# Altium schematic symbol library TarjetaPrincipalV1_4.SCHLIB: 43 symbols
Pins are listed as number, name and electrical type; pins without a type are passive.

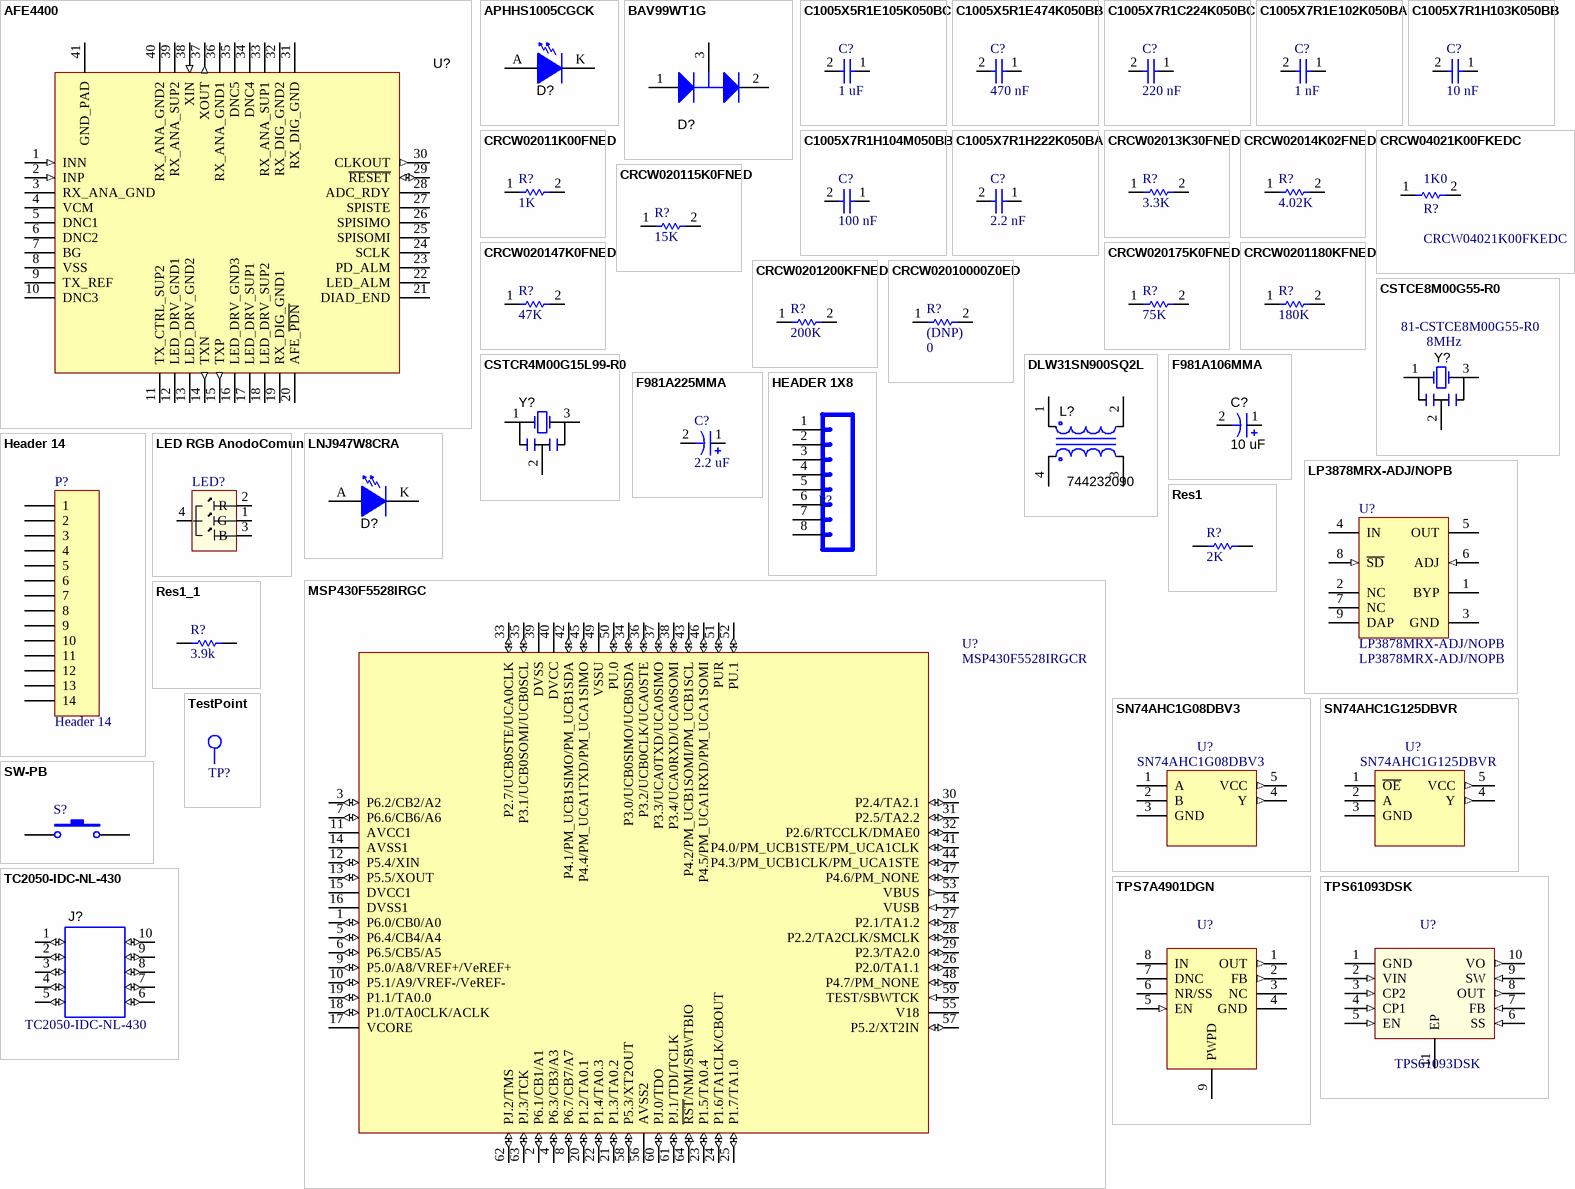
[diagram p0: symbols AFE4400 to TPS61093DSK]

## AFE4400
designator U?
IC, INTEGRATED ANALOG FRONT-END FOR HEART RATE MONITORS AND LOW-COST PULSE OXIMETERS, QFN-40; PART NUMBER: AFE4400; MANUFACTURER: TEXAS INSTRUMENTS; Manufacturer Part Number 1: AFE4400RHAT; POPULATE: Y; Description 1: ADC / DAC Multichannel Intg AFE for Heart Rate Monitors; Input Type: Analog, Digital; Input Voltage: 3.3 V; Number of Converters: 1; Resolution: 22 bit; Conversion Rate: 1.3 kSPs; Interface Type: Serial (SPI); Number of Channels: 1 Channel; Maximum Power Dissipation: 2.84 mW; Supply Voltage - Max: 3.6 V; Supply Voltage - Min: 2 V; Product Status: New Product; CONSIGNED: Y; Supplier 1: Mouser; Supplier Part Number 1: 595-AFE4400RHAT; Manufacturer 1: Texas Instruments; RoHS 1: RoHS Compliant; Category: ADC / DAC Multichannel; Stock 1: 140; Pricing 1: 1=10.29, 10=9.26, 25=8.68, 50=8.44, 100=7.61, 250=6.99, 500=6.37, 750=5.89, 1000=5.14 (AUD); Package / Case: VQFN-40; Packaging: Reel; Series: AFE4400; Brand: Texas Instruments; Mounting Style: SMD/SMT; Maximum Operating Temperature: + 70 C; Minimum Operating Temperature: 0 C; Standard Pack Qty: 250; RoHS - Mouser: Y; Minimum Order Quantity: 1; Reeling: True; ComponentLink1URL: http://www.mouser.com/ds/2/405/sbas601f-317023.pdf; ComponentLink1Description: http://www.mouser.com/ds/2/405/sbas601f-317023.pdf
footprint QFN-40[RHA-42P]
pins: 1 INN (in), 2 INP (in), 3 RX_ANA_GND (power), 4 VCM (power), 5 DNC1, 6 DNC2, 7 BG, 8 VSS (power), 9 TX_REF (power), 10 DNC3, 11 TX_CTRL_SUP2 (power), 12 LED_DRV_GND1 (power), 13 LED_DRV_GND2 (power), 14 TXN (out), 15 TXP (out), 16 LED_DRV_GND3 (power), 17 LED_DRV_SUP1 (power), 18 LED_DRV_SUP2 (power), 19 RX_DIG_GND1 (power), 20 AFE_~{PDN} (power), 21 DIAD_END, 22 LED_ALM, 23 PD_ALM, 24 SCLK, 25 SPISOMI, 26 SPISIMO, 27 SPISTE, 28 ADC_RDY, 29 ~{RESET} (io), 30 CLKOUT (out), 31 RX_DIG_GND (power), 32 RX_DIG_GND2 (power), 33 RX_ANA_SUP1 (power), 34 DNC4, 35 DNC5, 36 RX_ANA_GND1 (power), 37 XOUT (out), 38 XIN (in), 39 RX_ANA_SUP2 (power), 40 RX_ANA_GND2 (power), 41 GND_PAD (power)

## APHHS1005CGCK
designator D?, comment 2290341  (value not drawn)
KINGBRIGHT - KPHHS-1005MGCK - LED, 0402, GREEN; Luminous Intensity: 60; Viewing Angle: 120°; Forward Current If: 20; Forward Voltage: 2.1; LED Mounting: SMD; Lens Shape: Rectangular; Wavelength Typ: 574; SVHC: No SVHC (16-Dec-2013; Supplier 1: Farnell; Supplier Part Number 1: 2290341; Manufacturer 1: KINGBRIGHT; Manufacturer Part Number 1: KPHHS-1005MGCK; RoHS 1: YES; Description 1: KINGBRIGHT - KPHHS-1005MGCK - LED, 0402, GREEN; Stock 1: 2970; Pricing 1: 1=0.173, 10=0.162, 50=0.151, 100=0.14, 250=0.13, 500=0.12, 500=0.108, 3000=0.0859 (GBP); Bulb Size: -; LED Colour: Green; Packaging: Each; MSL: MSL 3 - 168 hours; ComponentLink1URL: http://www.farnell.com/datasheets/1683503.pdf; ComponentLink1Description: http://www.farnell.com/datasheets/1683503.pdf; Supplier 2: Mouser; Supplier Part Number 2: 604-APHHS1005CGCK
footprint LED_0402_GREEN
pins: A, K

## BAV99WT1G
designator D?, comment 1651159  (value not drawn)
ON SEMICONDUCTOR - BAV99WT1G - DIODE SMALL SIGNAL, 750MA; POPULATE: Y; CONSIGNED: N; PART NUMBER: BAV99WT1G; MANUFACTURER: ON SEMICONDUCTOR; Supplier 1: Farnell; Supplier Part Number 1: 1651159; Manufacturer 1: ON SEMICONDUCTOR; Manufacturer Part Number 1: BAV99WT1G; RoHS 1: YES; Description 1: ON SEMICONDUCTOR - BAV99WT1G - DIODE SMALL SIGNAL, 750MA; Stock 1: 17968; Pricing 1: 1=0.071, 25=0.064, 50=0.052, 100=0.038, 500=0.0261, 1000=0.023 (GBP); ComponentLink1URL: http://www.onsemi.com/pub/Collateral/BAV99WT1-D.PDF; ComponentLink1Description: http://www.onsemi.com/pub/Collateral/BAV99WT1-D.PDF; Supplier 2: Mouser; Supplier Part Number 2: 863-BAV99WT1G
footprint SOT-323
pins: 1 A, 2 C, 3 A_C
1 alternate drawing of the same symbol

## C1005X5R1E105K050BC
designator C?, comment 1 uF
TDK - C1005X5R1E105K050BC - CAP, MLCC, X5R, 1UF, 25V, 0402; Value: 1 uF; Supplier 1: Farnell; Stock 1: 5210; Pricing 1: 1=0.045, 10=0.04, 100=0.036, 250=0.029, 500=0.023, 10000=0.016 (GBP); ComponentLink1URL: http://www.farnell.com/datasheets/1796654.pdf; ComponentLink1Description: http://www.farnell.com/datasheets/1796654.pdf; Supplier Part Number 1: 2346884; Manufacturer 1: TDK; Manufacturer Part Number 1: C1005X5R1E105K050BC; RoHS 1: YES; Description 1: TDK - C1005X5R1E105K050BC - CAP, MLCC, X5R, 1UF, 25V, 0402; Supplier 2: Mouser; Supplier Part Number 2: 810-C1005X5R1E105K
footprint C0402
pins: 1, 2

## C1005X5R1E474K050BB
designator C?, comment 470 nF
TDK - C1005X5R1E474K050BB - CAP CERAMIC, 0.47UF, 25V, X5R, 0402; Product Range: TDK - C Series; Capacitance: 0.47; Capacitance Tolerance: ± 10%; Dielectric Characteristic: X5; Voltage Rating: 25; Capacitor Case Style: 0402 ^1005 Metric]; Value: 470 nF; Supplier 1: Farnell; Stock 1: 17199; Pricing 1: 1=0.019, 10=0.009, 100=0.009, 1000=0.008, 2500=0.008, 10000=0.008 (GBP); Packaging: Cut Tape; MSL: -; ComponentLink1URL: http://product.tdk.com/capacitor/mlcc/en/documents/mlcc_commercial_general_en.pdf; ComponentLink1Description: http://product.tdk.com/capacitor/mlcc/en/documents/mlcc_commercial_general_en.pdf; Supplier Part Number 1: 2354077; Manufacturer 1: TDK; Manufacturer Part Number 1: C1005X5R1E474K050BB; RoHS 1: YES; Description 1: TDK - C1005X5R1E474K050BB - CAP CERAMIC, 0.47UF, 25V, X5R, 0402; Supplier 2: Mouser; Supplier Part Number 2: 810-C1005X5R1E474K
footprint C0402
pins: 1, 2

## C1005X7R1C224K050BC
designator C?, comment 220 nF
TDK - C1005X7R1C224K050BC - CAP CERAMIC, 0.22UF, 16V, X7R, 0402; Supplier 1: Farnell; Stock 1: 13525; Pricing 1: 1=0.021, 10=0.012, 100=0.01, 1000=0.009, 4000=0.009, 8000=0.009 (GBP); ComponentLink1URL: http://product.tdk.com/capacitor/mlcc/en/documents/mlcc_commercial_general_en.pdf; ComponentLink1Description: http://product.tdk.com/capacitor/mlcc/en/documents/mlcc_commercial_general_en.pdf; Supplier Part Number 1: 2394245; Manufacturer 1: TDK; Manufacturer Part Number 1: C1005X7R1C224K050BC; RoHS 1: YES; Description 1: TDK - C1005X7R1C224K050BC - CAP CERAMIC, 0.22UF, 16V, X7R, 0402; Value: 220 nF; Supplier 2: Mouser; Supplier Part Number 2: 810-C1005X7R1C224K
footprint C0402
pins: 1, 2

## C1005X7R1E102K050BA
designator C?, comment 1 nF
TDK - C1005X7R1E102K050BA - CAPACITOR CERAMIC 1000PF, 25V, X7R, 10%, 0402; Value: 1 nF; Supplier 1: Farnell; Stock 1: 7460; Pricing 1: 1=0.004, 10=0.002, 100=0.002, 1000=0.002, 2500=0.002, 10000=0.002 (GBP); ComponentLink1URL: http://www.farnell.com/datasheets/1571323.pdf; ComponentLink1Description: http://www.farnell.com/datasheets/1571323.pdf; ComponentLink2URL: http://www.farnell.com/datasheets/1718611.pdf; ComponentLink2Description: http://www.farnell.com/datasheets/1718611.pdf; Supplier Part Number 1: 1844132; Manufacturer 1: TDK; Manufacturer Part Number 1: C1005X7R1E102K050BA; RoHS 1: YES; Description 1: TDK - C1005X7R1E102K050BA - CAPACITOR CERAMIC 1000PF, 25V, X7R, 10%, 0402; Supplier 2: Mouser; Supplier Part Number 2: 810-C1005X7R1E102K
footprint C0402
pins: 1, 2

## C1005X7R1H103K050BB
designator C?, comment 10 nF
TDK - C1005X7R1H103K050BB - CAP CERAMIC, 0.01UF, 50V, X7R, 0402; Product Range: TDK - C Series; Capacitance: 0.01; Capacitance Tolerance: ± 10%; Dielectric Characteristic: X7; Voltage Rating: 50; Capacitor Case Style: 0402 ^1005 Metric]; Value: 10 nF; Supplier 1: Farnell; Stock 1: 36; Pricing 1: 1=0.011, 10=0.005, 100=0.005, 1000=0.005, 2500=0.005 (GBP); Packaging: Cut Tape; MSL: -; ComponentLink1URL: http://product.tdk.com/capacitor/mlcc/en/documents/mlcc_commercial_general_en.pdf; ComponentLink1Description: http://product.tdk.com/capacitor/mlcc/en/documents/mlcc_commercial_general_en.pdf; Supplier Part Number 1: 2354088; Manufacturer 1: TDK; Manufacturer Part Number 1: C1005X7R1H103K050BB; RoHS 1: YES; Description 1: TDK - C1005X7R1H103K050BB - CAP CERAMIC, 0.01UF, 50V, X7R, 0402; Supplier 2: Mouser; Supplier Part Number 2: 810-C1005X7R1H103K
footprint C0402
pins: 1, 2

## C1005X7R1H104M050BB
designator C?, comment 100 nF
TDK - C1005X7R1H104M050BB - CAP CERAMIC, 0.1UF, 50V, X7R, 0402; Value: 100 nF; Supplier 1: Farnell; Stock 1: 15712; Pricing 1: 1=0.021, 10=0.012, 100=0.01, 1000=0.009, 4000=0.009, 8000=0.009 (GBP); ComponentLink1URL: http://product.tdk.com/capacitor/mlcc/en/documents/mlcc_commercial_general_en.pdf; ComponentLink1Description: http://product.tdk.com/capacitor/mlcc/en/documents/mlcc_commercial_general_en.pdf; Supplier Part Number 1: 2354090; Manufacturer 1: TDK; Manufacturer Part Number 1: C1005X7R1H104M050BB; RoHS 1: YES; Description 1: TDK - C1005X7R1H104M050BB - CAP CERAMIC, 0.1UF, 50V, X7R, 0402; Supplier 2: Mouser; Supplier Part Number 2: 810-C1005X7R1H104M
footprint C0402
pins: 1, 2

## C1005X7R1H222K050BA
designator C?, comment 2.2 nF
TDK - C1005X7R1H222K050BA - CAPACITOR CERAMIC 2200PF, 50V, X7R, 10%, 0402; Value: 2.2 nF; Supplier 1: Farnell; Stock 1: 9840; Pricing 1: 1=0.004, 10=0.002, 100=0.002, 1000=0.002, 2500=0.002, 10000=0.002 (GBP); ComponentLink1URL: http://www.farnell.com/datasheets/1571323.pdf; ComponentLink1Description: http://www.farnell.com/datasheets/1571323.pdf; ComponentLink2URL: http://www.farnell.com/datasheets/1718611.pdf; ComponentLink2Description: http://www.farnell.com/datasheets/1718611.pdf; Supplier Part Number 1: 1844139; Manufacturer 1: TDK; Manufacturer Part Number 1: C1005X7R1H222K050BA; RoHS 1: YES; Description 1: TDK - C1005X7R1H222K050BA - CAPACITOR CERAMIC 2200PF, 50V, X7R, 10%, 0402; Supplier 2: Mouser; Supplier Part Number 2: 810-C1005X7R1H222K
footprint C0402
pins: 1, 2

## CRCW02011K00FNED
designator R?, comment 1K
VISHAY DALE - CRCW02011K00FNED - RESISTOR, THICK FILM CHIP, 1KOHM 50mW, 1%, FULL REEL; Value: 1K; Supplier 1: Farnell; Pricing 1: 10000=0.022, 20000=0.022, 30000=0.022, 50000=0.019 (GBP); ComponentLink1URL: http://www.vishay.com/docs/20035/dcrcwe3.pdf; ComponentLink1Description: http://www.vishay.com/docs/20035/dcrcwe3.pdf; Supplier Part Number 1: 2321243; Manufacturer 1: VISHAY DALE; Manufacturer Part Number 1: CRCW02011K00FNED; RoHS 1: YES; Description 1: VISHAY DALE - CRCW02011K00FNED - RESISTOR, THICK FILM CHIP, 1KOHM 50mW, 1%, FULL REEL; Supplier 2: Mouser; Supplier Part Number 2: 71-CRCW02011K00FNED
footprint 0201
pins: 1, 2

## CRCW02013K30FNED
designator R?, comment 3.3K
VISHAY DALE - CRCW02013K30FNED - RESISTOR, THICK FILM, 3.3 KOHM, 50 mW, 1%, FULL REEL; Value: 3.3K; Supplier 1: Farnell; Stock 1: 9995; Pricing 1: 10000=0.007, 20000=0.007, 30000=0.006, 50000=0.006 (GBP); ComponentLink1URL: http://www.farnell.com/datasheets/1700795.pdf; ComponentLink1Description: http://www.farnell.com/datasheets/1700795.pdf; Supplier Part Number 1: 2322357; Manufacturer 1: VISHAY DALE; Manufacturer Part Number 1: CRCW02013K30FNED; RoHS 1: YES; Description 1: VISHAY DALE - CRCW02013K30FNED - RESISTOR, THICK FILM, 3.3 KOHM, 50 mW, 1%, FULL REEL
footprint 0201
pins: 1, 2

## CRCW02014K02FNED
designator R?, comment 4.02K
VISHAY DALE - CRCW02014K02FNED - RESISTOR, THICK FILM, 4.02 KOHM, 50 mW, 1%, FULL REEL; Product Range: VISHAY - CRCW Series; Resistance: 4.02; Power Rating: 50; Resistor Case Style: 0201 ^0603 Metric]; Value: 4.02K; Supplier 1: Farnell; Stock 1: 9995; Pricing 1: 10000=0.007, 20000=0.007, 30000=0.007, 50000=0.006 (GBP); Resistance Tolerance: ± 1%; Resistor Element Type: Thick Film; ComponentLink1URL: http://www.farnell.com/datasheets/1700795.pdf; ComponentLink1Description: http://www.farnell.com/datasheets/1700795.pdf; Supplier Part Number 1: 2322928; Manufacturer 1: VISHAY DALE; Manufacturer Part Number 1: CRCW02014K02FNED; RoHS 1: YES; Description 1: VISHAY DALE - CRCW02014K02FNED - RESISTOR, THICK FILM, 4.02 KOHM, 50 mW, 1%, FULL REEL
footprint 0201
pins: 1, 2

## CRCW04021K00FKEDC
designator R?  Resistance: 1K0
Resistor; Manufacturer: Vishay / Dale; Description: Thick Film Resistors - SMD 1/16watt 1Kohms 1% Commercial Use; Power Rating: 62.5 mW (1/16 W); Temperature Coefficient: 100 PPM / C; Tolerance: 1 %; Voltage Rating: 50 V; Supplier 1: Mouser; Manufacturer Part Number: CRCW04021K00FKEDC; RoHS: RoHS Compliant By Exemption; Category: Thick Film Resistors - SMD; Stock 1: 284399; Pricing 1: 1=0.130, 10=0.042, 100=0.017, 1000=0.007, 2500=0.004, 10000=0.004 (MXN); Features: -; Height: 0.35 mm; Length: 1 mm; Package / Case: -; Packaging: Cut Tape; Product: Thick Film Resistors SMD; Series: CRCW-C e3; Technology: Thick Film; Termination Style: SMD/SMT; Width: 0.5 mm; Brand: Vishay / Dale; Mounting Style: PCB Mount; Case Code - in: 0402; Case Code - mm: 1005; Maximum Operating Temperature: + 155 C; Minimum Operating Temperature: - 55 C; Product Type: Thick Film Resistors; Standard Pack Qty: 10000; Subcategory: Resistors; RoHS - Mouser: E; Minimum Order Quantity: 1; Reeling: True; ComponentLink1URL: https://www.mouser.com/datasheet/2/427/crcwce3-1762584.pdf; ComponentLink1Description: https://www.mouser.com/datasheet/2/427/crcwce3-1762584.pdf; Supplier Part Number 1: 71-CRCW04021K00FKEDC
footprint R-0402
pins: 1, 2

## CRCW020115K0FNED
designator R?, comment 15K
VISHAY DALE - CRCW020115K0FNED - RESISTOR, THICK FILM, 15 KOHM, 50 mW, 1%, FULL REEL; Value: 15K; Supplier 1: Farnell; Stock 1: 9995; Pricing 1: 10000=0.007, 20000=0.007, 30000=0.007, 50000=0.006 (GBP); ComponentLink1URL: http://www.farnell.com/datasheets/1700795.pdf; ComponentLink1Description: http://www.farnell.com/datasheets/1700795.pdf; Supplier Part Number 1: 2321583; Manufacturer 1: VISHAY DALE; Manufacturer Part Number 1: CRCW020115K0FNED; RoHS 1: YES; Description 1: VISHAY DALE - CRCW020115K0FNED - RESISTOR, THICK FILM, 15 KOHM, 50 mW, 1%, FULL REEL
footprint 0201
pins: 1, 2

## CRCW020147K0FNED
designator R?, comment 47K
VISHAY DALE - CRCW020147K0FNED - RESISTOR, THICK FILM, 47 KOHM, 50 mW, 1%, FULL REEL; Product Range: VISHAY - CRCW Series; Resistance: 47; Power Rating: 50; Resistor Case Style: 0201 ^0603 Metric]; Value: 47K; Supplier 1: Farnell; Stock 1: 9995; Pricing 1: 10000=0.007, 20000=0.007, 30000=0.006, 50000=0.006 (GBP); Resistance Tolerance: ± 1%; Resistor Element Type: Thick Film; MSL: -; ComponentLink1URL: http://www.farnell.com/datasheets/1700795.pdf; ComponentLink1Description: http://www.farnell.com/datasheets/1700795.pdf; Supplier Part Number 1: 2322005; Manufacturer 1: VISHAY DALE; Manufacturer Part Number 1: CRCW020147K0FNED; RoHS 1: YES; Description 1: VISHAY DALE - CRCW020147K0FNED - RESISTOR, THICK FILM, 47 KOHM, 50 mW, 1%, FULL REEL
footprint 0201
pins: 1, 2

## CRCW020175K0FNED
designator R?, comment 75K
VISHAY DALE - CRCW020175K0FNED - RESISTOR, THICK FILM, 75 KOHM, 50 mW, 1%, FULL REEL; Value: 75K; Supplier 1: Farnell; Stock 1: 9995; Pricing 1: 10000=0.007, 20000=0.007, 30000=0.006, 50000=0.006 (GBP); ComponentLink1URL: http://www.farnell.com/datasheets/1700795.pdf; ComponentLink1Description: http://www.farnell.com/datasheets/1700795.pdf; Supplier Part Number 1: 2321623; Manufacturer 1: VISHAY DALE; Manufacturer Part Number 1: CRCW020175K0FNED; RoHS 1: YES; Description 1: VISHAY DALE - CRCW020175K0FNED - RESISTOR, THICK FILM, 75 KOHM, 50 mW, 1%, FULL REEL
footprint 0201
pins: 1, 2

## CRCW0201180KFNED
designator R?, comment 180K
VISHAY DALE - CRCW0201180KFNED - RESISTOR, THICK FILM, 180 KOHM, 50 mW, 1%, FULL REEL; Value: 180K; Supplier 1: Farnell; Stock 1: 19995; Pricing 1: 10000=0.078, 20000=0.078, 30000=0.075, 50000=0.066 (GBP); ComponentLink1URL: http://www.farnell.com/datasheets/1700795.pdf; ComponentLink1Description: http://www.farnell.com/datasheets/1700795.pdf; Supplier Part Number 1: 2321951; Manufacturer 1: VISHAY DALE; Manufacturer Part Number 1: CRCW0201180KFNED; RoHS 1: YES; Description 1: VISHAY DALE - CRCW0201180KFNED - RESISTOR, THICK FILM, 180 KOHM, 50 mW, 1%, FULL REEL
footprint 0201
pins: 1, 2

## CRCW0201200KFNED
designator R?, comment 200K
VISHAY DALE - CRCW0201200KFNED - RESISTOR, THICK FILM, 200 KOHM, 50 mW, 1%, FULL REEL; Value: 200K; Supplier 1: Farnell; Stock 1: 9995; Pricing 1: 10000=0.007, 20000=0.007, 30000=0.006, 50000=0.006 (GBP); ComponentLink1URL: http://www.farnell.com/datasheets/1700795.pdf; ComponentLink1Description: http://www.farnell.com/datasheets/1700795.pdf; Supplier Part Number 1: 2321987; Manufacturer 1: VISHAY DALE; Manufacturer Part Number 1: CRCW0201200KFNED; RoHS 1: Y-EX; Description 1: VISHAY DALE - CRCW0201200KFNED - RESISTOR, THICK FILM, 200 KOHM, 50 mW, 1%, FULL REEL
footprint 0201
pins: 1, 2

## CRCW02010000Z0ED
designator R?, comment (DNP)  value 0
VISHAY DALE - CRCW02010000Z0ED - RESISTOR, CHIP, JUMPER, ZERO OHM, 50mW, FULL REEL; Supplier 1: Farnell; Stock 1: 19995; Pricing 1: 10000=0.017, 20000=0.016, 30000=0.015 (GBP); ComponentLink1URL: http://www.vishay.com/docs/20035/dcrcwe3.pdf; ComponentLink1Description: http://www.vishay.com/docs/20035/dcrcwe3.pdf; Supplier Part Number 1: 2316008; Manufacturer 1: VISHAY DALE; Manufacturer Part Number 1: CRCW02010000Z0ED; RoHS 1: YES; Description 1: VISHAY DALE - CRCW02010000Z0ED - RESISTOR, CHIP, JUMPER, ZERO OHM, 50mW, FULL REEL; Supplier 2: Mouser; Supplier Part Number 2: 71-CRCW02010000Z0ED
footprint 0201
pins: 1, 2

## CSTCE8M00G55-R0
designator Y?  value 8MHz  Supplier Part Number 1: 81-CSTCE8M00G55-R0  (hidden comment: CSTCE8M00G55-R0)
CRYSTAL, PIEZO CERAMIC RESONATOR, 8.00 MHz, SMD, 0.5%, 33pF, SMD; MANUFACTURER: MURATA; POPULATE: Y; CONSIGNED: N; Description 1: Resonators 8Mhz; Frequency: 8 MHz; Frequency Stability: 0.2 %; Brand: Murata Electronics; PART NUMBER: CSTCE8M00G55-R0; Supplier 1: Mouser; Manufacturer 1: Murata; Manufacturer Part Number 1: CSTCE8M00G55-R0; RoHS 1: RoHS Compliant; Category: Resonators; Stock 1: 25583; Pricing 1: 1=0.594, 10=0.467, 100=0.375, 1000=0.316, 3000=0.286, 9000=0.277 (AUD); Dimensions: 1.3 mm W x 3.2 mm L x 0.7 mm H; Operating Temperature Range: - 20 C to + 80 C; Packaging: Reel; Series: CSTCE; Termination Style: SMD/SMT; Tolerance: 0.5 %; Type: Small-cap Chip Type; Product Category: Ceramic Resonators, SMD; Standard Pack Qty: 3000; Tradename: CERALOCK; RoHS - Mouser: Y; Minimum Order Quantity: 1; Reeling: True; ComponentLink1URL: http://search.murata.co.jp/Ceramy/CatalogAction.do?sHinnm=?&nbsp&sNHinnm=CSTCE8M00G55-R0&sNhin_key=CSTCE8M00G55-R0&sLang=en&sParam=CSTCE; ComponentLink1Description: http://search.murata.co.jp/Ceramy/CatalogAction.do?sHinnm=?&nbsp&sNHinnm=CSTCE8M00G55-R0&sNhin_key=CSTCE8M00G55-R0&sLang=en&sParam=CSTCE
footprint RESONATOR-1.3X3.2-MURATA
pins: 1, 2, 3

## CSTCR4M00G15L99-R0
designator Y?  (value not drawn)
CRYSTAL, PIEZO CERAMIC RESONATOR, 4.00 MHz,  +/-0.1%, 39pF, SMD; MANUFACTURER: MURATA; POPULATE: Y; CONSIGNED: N; VALUE: 4MHz; Description 1: Resonators 4MHZ; Frequency: 4 MHz; Tolerance: 0.5 %; Brand: Murata Electronics; PART NUMBER: CSTCR4M00G15L99-R0; Supplier 1: Mouser; Supplier Part Number 1: 81-CSTCR4M00G15L99R0; Manufacturer 1: Murata; Manufacturer Part Number 1: CSTCR4M00G15L99-R0; RoHS 1: RoHS Compliant; Category: Resonators; Stock 1: 3676; Pricing 1: 1=0.945, 10=0.667, 100=0.597, 1000=0.502, 3000=0.471, 9000=0.455, 24000=0.439 (AUD); Dimensions: 1.4 mm W x 4.1 mm L x 1.15 mm H; Packaging: Reel; Series: CSTCR; Termination Style: SMD/SMT; Standard Pack Qty: 3000; RoHS - Mouser: Y; Minimum Order Quantity: 1; Reeling: True; ComponentLink1URL: http://search.murata.co.jp/Ceramy/CatalogAction.do?sHinnm=?&nbsp&sNHinnm=CSTCR4M00G15L99-R0&sNhin_key=CSTCR4M00G15L99-R0&sLang=en&sParam=CSTCR; ComponentLink1Description: http://search.murata.co.jp/Ceramy/CatalogAction.do?sHinnm=?&nbsp&sNHinnm=CSTCR4M00G15L99-R0&sNhin_key=CSTCR4M00G15L99-R0&sLang=en&sParam=CSTCR
footprint CRYSTAL-2X4.5MM_3P
pins: 1, 2, 3

## DLW31SN900SQ2L
designator L?, comment 744232090
WURTH ELEKTRONIK - 744232090 - FILTER, COMMON, EMI, 0.37A; Current Rating: 370; Voltage Rating: 50; Filter Terminals: SMD; SVHC: No SVHC (16-Dec-2013); External Depth: 1.6; External Length / Height: 1.9; External Width: 3.2; Impedance: 90; Resistance: 300; Supplier 1: Farnell; Supplier Part Number 1: 1636474; Manufacturer 1: WURTH ELEKTRONIK; Manufacturer Part Number 1: 744232090; RoHS 1: YES; Description 1: WURTH ELEKTRONIK - 744232090 - FILTER, COMMON, EMI, 0.37A; Stock 1: 1875; Pricing 1: 1=0.83, 10=0.81, 50=0.77, 100=0.75, 250=0.69 (GBP); Operating Temperature Max: +125; Operating Temperature Min: -40; Packaging: Cut Tape; Voltage Rating V DC: 50; ComponentLink1URL: http://www.farnell.com/datasheets/1735620.pdf; ComponentLink1Description: http://www.farnell.com/datasheets/1735620.pdf; ComponentLink2URL: http://www.farnell.com/cad/1670066.zip; ComponentLink2Description: http://www.farnell.com/cad/1670066.zip; Supplier 2: Mouser; Supplier Part Number 2: 81-DLW31SN900SQ2L
footprint IND_1206-4P
pins: 1, 2, 3, 4

## F981A106MMA
designator C?, comment 10 uF
NICHICON - F981A106MMA - CAPACITOR TANT, 10UF, 10V 20%; Product Range: NICHICON - F98 Series; Capacitance: 10; Capacitor Case Style: 0603 ^1608 Metric]; ESR: 7.5; Value: 10 uF; Supplier 1: Farnell; Stock 1: 9201; Pricing 1: 1=0.282, 10=0.236, 100=0.169, 250=0.148, 500=0.131, 1000=0.117 (GBP); Capacitance Tolerance: ± 20%; Voltage Rating: 10; Operating Temperature Max: 125; Series: F98; ComponentLink1URL: http://www.nichicon.co.jp/english/products/pdfs/e-f98.pdf; ComponentLink1Description: http://www.nichicon.co.jp/english/products/pdfs/e-f98.pdf; Supplier Part Number 1: 1853431; Manufacturer 1: NICHICON; Manufacturer Part Number 1: F981A106MMA; RoHS 1: YES; Description 1: NICHICON - F981A106MMA - CAPACITOR TANT, 10UF, 10V 20%; Supplier 2: Mouser; Supplier Part Number 2: 647-F981A106MMA
footprint C0603_P
pins: 1 +, 2 -

## F981A225MMA
designator C?, comment 2.2 uF
NICHICON - F981A225MMA - CAPACITOR TANT, 2.2UF, 10V, SMD 20%; Supplier 1: Farnell; Stock 1: 1985; Pricing 1: 1=0.224, 10=0.188, 100=0.135, 250=0.118, 500=0.104, 1000=0.093 (GBP); ComponentLink1URL: http://www.nichicon.co.jp/english/products/pdfs/e-f98.pdf; ComponentLink1Description: http://www.nichicon.co.jp/english/products/pdfs/e-f98.pdf; Supplier Part Number 1: 1848764; Manufacturer 1: NICHICON; Manufacturer Part Number 1: F981A225MMA; RoHS 1: YES; Value: 2.2 uF; Description 1: NICHICON - F981A225MMA - CAPACITOR TANT, 2.2UF, 10V, SMD 20%; Supplier 2: Mouser; Supplier Part Number 2: 647-F981A225MMA
footprint C0603_P
pins: 1 +, 2 -

## HEADER 1X8
designator P?, comment 68000-236HLF  (value not drawn)
HEADER 1X8; Manufacturer: Amphenol FCI; Current Rating: 3 A; Mounting Angle: Straight; Number of Positions: 36 Position; Voltage Rating: 1.5 kV; Pitch: 2.54 mm; Insulation Resistance: 5 GOhms; Mating Post Length: 5.84 mm; Supplier 1: Mouser; Manufacturer Part Number: 68000-236HLF; RoHS: RoHS Compliant; Category: Headers & Wire Housings; Stock 1: 1164; Pricing 1: 1=1.89, 10=1.65, 100=1.47, 200=1.42, 500=1.23, 1000=1.00 (MXN); Contact Plating: Gold; Housing Material: Thermoplastic (TP); Number of Rows: 1 Row; Packaging: Bulk; Product: Headers; Termination Style: Solder Pin; Type: Pin Strip; Brand: Amphenol FCI; Contact Material: Phosphor Bronze; Flammability Rating: UL 94 V-0; Mounting Style: -; Contact Gender: Pin (Male); Housing Color: Black; Housing Gender: -; Maximum Operating Temperature: + 125 C; Minimum Operating Temperature: - 65 C; Product Type: Headers & Wire Housings; Standard Pack Qty: 100; Subcategory: Headers & Wire Housings; Termination Post Length: 2.41 mm; Tradename: BergStik; RoHS - Mouser: Y; Minimum Order Quantity: 1; Reeling: False; ComponentLink1URL: https://www.mouser.com/datasheet/2/18/68000-1266375.pdf; ComponentLink1Description: https://www.mouser.com/datasheet/2/18/68000-1266375.pdf; Supplier Part Number 1: 649-68000-236HLF
footprint HEAD8-NOSS (HEAD15-NOSS)
pins: 1, 2, 3, 4, 5, 6, 7, 8

## Header 14
designator P?
Header, 14-Pin; LatestRevisionDate: 17-Jul-2002; LatestRevisionNote: Re-released for DXP Platform.; Publisher: Altium Limited
footprint Con 503480-1400
pins: 1, 2, 3, 4, 5, 6, 7, 8, 9, 10, 11, 12, 13, 14

## LED RGB AnodoComun
designator LED?  (value not drawn)
Supplier 1: Newark; Supplier Part Number 1: 75R0622; Supplier 2: Mouser; Supplier Part Number 2: 645-598-8710-307F
footprint LED-RGB 0606 (LED RGB 598-8710-307F)
pins: 1 G, 2 R, 3 B, 4

## LNJ947W8CRA
designator D?, comment KPHHS-1005QBC-D-V  (value not drawn)
KINGBRIGHT - KPHHS-1005QBC-D-V - LED, 0402, BLUE; Luminous Intensity: 100; Viewing Angle: 120°; Forward Current If: 20; Forward Voltage: 3.3; LED Mounting: SMD; Lens Shape: Rectangular; Wavelength Typ: 468; SVHC: No SVHC (16-Dec-2013; Supplier 1: Farnell; Supplier Part Number 1: 2290337; Manufacturer 1: KINGBRIGHT; Manufacturer Part Number 1: KPHHS-1005QBC-D-V; RoHS 1: YES; Description 1: KINGBRIGHT - KPHHS-1005QBC-D-V - LED, 0402, BLUE; Stock 1: 863; Pricing 1: 1=0.15, 10=0.135, 50=0.122, 100=0.12, 250=0.108, 500=0.0972, 500=0.0875, 3000=0.0787 (GBP); Bulb Size: -; LED Colour: Blue; Packaging: Each; MSL: MSL 3 - 168 hours; ComponentLink1URL: http://www.farnell.com/datasheets/1683504.pdf; ComponentLink1Description: http://www.farnell.com/datasheets/1683504.pdf; Supplier 2: Mouser; Supplier Part Number 2: 667-LNJ947W8CRA
footprint LED_0402_BLUE
pins: A, K

## LP3878MRX-ADJ/NOPB
designator U?
Manufacturer 1: TEXAS INSTRUMENTS; Input Voltage Min: 2.5; Input Voltage Max: 16; Output Voltage Min: 1; Output Voltage Max: 5.5; Output Current: 800; Dropout Voltage Vdo: 475; No. of Pins: 8; Description 1: TEXAS INSTRUMENTS - LP3878MRX-ADJ/NOPB - IC, LDO REGULATOR, 800mA, 1-5.5V, FULL REEL; Supplier 1: Newark; Stock 1: 0; Pricing 1: 2500=0.9 (USD); Packaging: Tape & Reel; ComponentLink1URL: http://cache.national.com/ds/LP/LP3878-ADJ.pdf; ComponentLink1Description: http://cache.national.com/ds/LP/LP3878-ADJ.pdf; Supplier Part Number 1: 65K6514; RoHS 1: YES; Manufacturer Part Number 1: LP3878MRX-ADJ/NOPB; Supplier 2: Mouser; Supplier Part Number 2: 926-LP3878MRXADJNOPB
footprint DDA
footprint NGT
pins: 1 BYP, 2 NC, 3 GND (power), 4 IN (power), 5 OUT (power), 6 ADJ (in), 7 NC, 8 ~{SD} (in), 9 DAP (power)

## MSP430F5528IRGC
designator U?, comment MSP430F5528IRGCR
TEXAS INSTRUMENTS - MSP430F5528IRGCR - MCU, 16BIT, MSP430, 25MHZ, VQFN-64; Program Memory Size: 128; RAM Memory Size: 10; CPU Speed: 25; No. of I/O's: 47; MCU Case Style: VQFN; No. of Pins: 64; Embedded Interface Type: I2; Supply Voltage Min: 1.8; Supply Voltage Max: 3.6; Core Size: 16; Peripherals: ADC, Comparator, PWM, Timer; SVHC: No SVHC (16-Dec-2013; Supplier 1: Farnell; Stock 1: 1985; Pricing 1: 2000=2.45 (GBP); Controller Family/Series: MSP430F5; Packaging: Tape & Reel; MSL: MSL 3 - 168 hours; Operating Temperature Max: 85; Operating Temperature Min: -40; ComponentLink1URL: http://www.farnell.com/datasheets/1726495.pdf; ComponentLink1Description: http://www.farnell.com/datasheets/1726495.pdf; ComponentLink2URL: http://www.farnell.com/datasheets/1698556.pdf; ComponentLink2Description: http://www.farnell.com/datasheets/1698556.pdf; Supplier Part Number 1: 2325742; Manufacturer 1: TEXAS INSTRUMENTS; Manufacturer Part Number 1: MSP430F5528IRGCR; RoHS 1: YES; Description 1: TEXAS INSTRUMENTS - MSP430F5528IRGCR - MCU, 16BIT, MSP430, 25MHZ, VQFN-64; Supplier 2: Mouser; Supplier Part Number 2: 595-MSP430F5528IRGCR
footprint PVQFN-N64
pins: 1 P6.0/CB0/A0 (io), 2 P6.1/CB1/A1 (io), 3 P6.2/CB2/A2 (io), 4 P6.3/CB3/A3 (io), 5 P6.4/CB4/A4 (io), 6 P6.5/CB5/A5 (io), 7 P6.6/CB6/A6 (io), 8 P6.7/CB7/A7 (io), 9 P5.0/A8/VREF+/VeREF+ (io), 10 P5.1/A9/VREF-/VeREF- (io), 11 AVCC1 (power), 12 P5.4/XIN (io), 13 P5.5/XOUT (io), 14 AVSS1 (power), 15 DVCC1 (power), 16 DVSS1 (power), 17 VCORE (power), 18 P1.0/TA0CLK/ACLK (io), 19 P1.1/TA0.0 (io), 20 P1.2/TA0.1 (io), 21 P1.3/TA0.2 (io), 22 P1.4/TA0.3 (io), 23 P1.5/TA0.4 (io), 24 P1.6/TA1CLK/CBOUT (io), 25 P1.7/TA1.0 (io), 26 P2.0/TA1.1 (io), 27 P2.1/TA1.2 (io), 28 P2.2/TA2CLK/SMCLK (io), 29 P2.3/TA2.0 (io), 30 P2.4/TA2.1 (io), 31 P2.5/TA2.2 (io), 32 P2.6/RTCCLK/DMAE0 (io), 33 P2.7/UCB0STE/UCA0CLK (io), 34 P3.0/UCB0SIMO/UCB0SDA (io), 35 P3.1/UCB0SOMI/UCB0SCL (io), 36 P3.2/UCB0CLK/UCA0STE (io), 37 P3.3/UCA0TXD/UCA0SIMO (io), 38 P3.4/UCA0RXD/UCA0SOMI (io), 39 DVSS (power), 40 DVCC (power), 41 P4.0/PM_UCB1STE/PM_UCA1CLK (io), 42 P4.1/PM_UCB1SIMO/PM_UCB1SDA (io), 43 P4.2/PM_UCB1SOMI/PM_UCB1SCL (io), 44 P4.3/PM_UCB1CLK/PM_UCA1STE (io), 45 P4.4/PM_UCA1TXD/PM_UCA1SIMO (io), 46 P4.5/PM_UCA1RXD/PM_UCA1SOMI (io), 47 P4.6/PM_NONE (io), 48 P4.7/PM_NONE (io), 49 VSSU (power), 50 PU.0 (io), 51 PUR (io), 52 PU.1 (io), 53 VBUS (out), 54 VUSB (in), 55 V18 (power), 56 AVSS2 (power), 57 P5.2/XT2IN (io), 58 P5.3/XT2OUT (io), 59 TEST/SBWTCK (in), 60 PJ.0/TDO (io), 61 PJ.1/TDI/TCLK (io), 62 PJ.2/TMS (io), 63 PJ.3/TCK (io), 64 ~{RST}/NMI/SBWTBIO (io)

## Res1
designator R?  value 2K  (hidden comment: Res1)
Resistor; Supplier 1: Newark; Supplier Part Number 1: 52K6788; Supplier 2: Mouser; Supplier Part Number 2: 71-CRCW0402-2.0K-E3
footprint CR-0402
pins: 1, 2

## Res1_1
designator R?, comment value 3.9k  (hidden comment: Res 3.9K)
Resistor; Supplier 1: Newark; Supplier Part Number 1: 52K6579; Supplier 2: Mouser; Supplier Part Number 2: 71-CRCW0402-1.62K-E3
footprint CR-0402
pins: 1, 2

## SN74AHC1G08DBV3
designator U?  Manufacturer Part Number: SN74AHC1G08DBV3
AND GATE; Manufacturer: Texas Instruments; Description: Logic Gates Single 2-Input Positive-AND Gate 5-SOT-23 -55 to 125; Logic Family: AHC; Number of Gates: 1 Gate; Number of Input Lines: 2 Input; Number of Output Lines: 1 Output; High Level Output Current: - 8 mA; Low Level Output Current: 8 mA; Propagation Delay Time: 7 ns; Supply Voltage - Max: 5.5 V; Supply Voltage - Min: 2 V; Supplier 1: Mouser; RoHS: RoHS Compliant; Category: Logic Gates; Stock 1: 5086; Pricing 1: 1=0.559, 10=0.415, 100=0.282, 500=0.231, 1000=0.174, 3000=0.153 (MXN); Operating Temperature Range: - 55 C to + 125 C; Package / Case: SOT-23-5; Packaging: Cut Tape; Product: Single-Function Gate; Brand: Texas Instruments; Mounting Style: SMD/SMT; Logic Function: AND; Maximum Operating Temperature: + 125 C; Minimum Operating Temperature: - 55 C; Product Type: Logic Gates; Standard Pack Qty: 3000; Subcategory: Logic ICs; RoHS - Mouser: Y; Minimum Order Quantity: 1; Reeling: True; Supplier Part Number 1: 595-SN74AHC1G08DBV3
footprint SOT23-5
pins: 1 A (power), 2 B, 3 GND, 4 Y (out), 5 VCC (out)

## SN74AHC1G125DBVR
designator U?  Manufacturer Part Number: SN74AHC1G125DBVR
BUFFER; Manufacturer: Texas Instruments; Description: Buffers & Line Drivers Tri-State Single Bus; Function: Buffer/Line Driver; Output Type: 3-State; Quiescent Current: 1 uA; Logic Family: AHC; Logic Type: True; Number of Channels: 1 Channel; Number of Input Lines: 1 Input; Number of Output Lines: 1 Output; High Level Output Current: - 8 mA; Input Signal Type: Single-Ended; Low Level Output Current: 8 mA; Operating Supply Voltage: 2.5 V; Polarity: Non-Inverting; Propagation Delay Time: 11.5 ns, 7.5 ns; Supply Voltage - Max: 5.5 V; Supply Voltage - Min: 2 V; Supplier 1: Mouser; RoHS: RoHS Compliant; Category: Buffers & Line Drivers; Stock 1: 27469; Pricing 1: 1=0.390, 10=0.270, 100=0.113, 1000=0.077, 3000=0.060, 9000=0.051, 24000=0.047, 45000=0.044, 99000=0.042 (MXN); Height: 1.15 mm; Length: 2.9 mm; Operating Temperature Range: - 40 C to + 125 C; Package / Case: SOT-23-5; Packaging: Cut Tape; Series: SN74AHC1G125; Technology: CMOS; Width: 1.6 mm; Brand: Texas Instruments; Mounting Style: SMD/SMT; Supply Current - Max: 1 uA; Maximum Operating Temperature: + 125 C; Minimum Operating Temperature: - 40 C; Product Type: Buffers & Line Drivers; Standard Pack Qty: 3000; Subcategory: Logic ICs; RoHS - Mouser: Y; Minimum Order Quantity: 1; Reeling: True; Supplier Part Number 1: 595-SN74AHC1G125DBVR
footprint SOT23-5
pins: 1 ~{OE} (power), 2 A, 3 GND, 4 Y (out), 5 VCC (out)

## SW-PB
designator S?  (value not drawn)
Switch; Supplier 1: Newark; Supplier Part Number 1: 15N4507; Supplier 2: Mouser; Supplier Part Number 2: 612-TL3315NF160Q
footprint SPST-2 (Switch; 2 Leads)
footprint TL3315
pins: 1, 2

## TC2050-IDC-NL-430
designator J?  value TC2050-IDC-NL-430  (no BOM)
CONNECTOR, PLUG OF NAILS CABLE, DUAL ROW, VERTICAL, 10-PIN; MANUFACTURER: TAG CONNECT; POPULATE: N; PART NUMBER: TC2050-IDC-NL-430; CONSIGNED: N
footprint TC2050-IDC-NL
pins: 1 (io), 2 (io), 3 (io), 4 (io), 5 (io), 6 (io), 7 (io), 8 (io), 9 (io), 10 (io)

## TestPoint
designator TP?, comment Test Point  (value not drawn)  (no BOM)
footprint TestPoint
pins: 1

## TPS7A4901DGN
designator U?  (value not drawn)
IC, ULTRALOW NOISE, HIGH-PSRR, LDO REGULATOR, VIN 3V TO 35V, 150mA ,MSOP-8, DGN; MANUFACTURER: TEXAS INSTRUMENTS; Manufacturer Part Number 1: TPS7A4901DGNT; POPULATE: Y; Description 1: TEXAS INSTRUMENTS - TPS7A4901DGNT - IC, ADJ LDO REG, 1.2V-33V, 0.15A, MSOP-8; CONSIGNED: Y; PART NUMBER: TPS7A4901DGN; Supplier 1: Farnell; Supplier Part Number 1: 2395583; Manufacturer 1: TEXAS INSTRUMENTS; RoHS 1: YES; Stock 1: 111; Pricing 1: 1=2.501, 10=2.235, 25=2.017, 50=1.92, 100=1.831 (GBP); ComponentLink1URL: http://www.farnell.com/simulation/1746546.zip; ComponentLink1Description: http://www.farnell.com/simulation/1746546.zip; ComponentLink2URL: http://www.ti.com/lit/ds/symlink/tps7a4901.pdf; ComponentLink2Description: http://www.ti.com/lit/ds/symlink/tps7a4901.pdf; ComponentLink3URL: http://www.farnell.com/cad/1610996.zip; ComponentLink3Description: http://www.farnell.com/cad/1610996.zip; Supplier 2: Mouser; Supplier Part Number 2: 595-TPS7A4901DGNT
footprint DGN_8P
pins: 1 OUT (out), 2 FB (out), 3 NC, 4 GND (power), 5 EN (in), 6 NR/SS, 7 DNC, 8 IN (power), 9 PWPD (power)

## TPS61093DSK
designator U?
IC, LOW INPUT BOOST CONVERTER WITH INTEGRATED POWER DIODE AND ISOLATION, SON-10, DSK; MANUFACTURER: TEXAS INSTRUMENTS; Manufacturer Part Number 1: TPS61093DSKR; POPULATE: Y; Description 1: Voltage Regulators - Switching Regulators Low In 20V/1.1A Step Up DC/DC Converter; Number of Outputs: 1; Output Current: 1 A; Output Voltage: 17 V; Switching Frequency: 1.2 MHz; PART NUMBER: TPS61093DSK; CONSIGNED: Y; Supplier 1: Mouser; Supplier Part Number 1: 595-TPS61093DSKR; Manufacturer 1: Texas Instruments; RoHS 1: RoHS Compliant; Category: Voltage Regulators - Switching Regulators; Stock 1: 0; Pricing 1: 3000=1.82 (AUD); Packaging: Reel; Series: TPS61093; Type: Boost Converters; Brand: Texas Instruments; Maximum Operating Temperature: + 85 C; Minimum Operating Temperature: - 40 C; Product Category: Converters - DC/DC; Standard Pack Qty: 3000; RoHS - Mouser: Y; Minimum Order Quantity: 3000; Reeling: True; ComponentLink1URL: http://www.mouser.com/ds/2/405/slvs992a-121117.pdf; ComponentLink1Description: http://www.mouser.com/ds/2/405/slvs992a-121117.pdf
footprint DSK
pins: 1 GND (power), 2 VIN (in), 3 CP2 (in), 4 CP1 (in), 5 EN (in), 6 SS (in), 7 FB (in), 8 OUT (out), 9 SW (in), 10 VO (out), 11 EP (power)

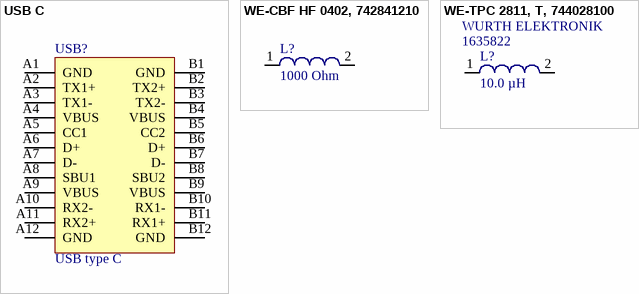
[diagram p1: symbols USB C to WE-TPC 2811, T, 744028100]

## USB C
designator USB?, comment USB type C
Supplier 1: Mouser; Supplier Part Number 1: 656-DX07S024JJ2R1300
footprint USB C
pins: A1 GND, A2 TX1+, A3 TX1-, A4 VBUS, A5 CC1, A6 D+, A7 D-, A8 SBU1, A9 VBUS, A10 RX2-, A11 RX2+, A12 GND, B1 GND, B2 TX2+, B3 TX2-, B4 VBUS, B5 CC2, B6 D+, B7 D-, B8 SBU2, B9 VBUS, B10 RX1-, B11 RX1+, B12 GND

## WE-CBF HF 0402, 742841210
designator L?, comment 1000 Ohm
SMD EMI Suppression Ferrite Beads WE-CBF HF, Z= 1000 Ohm; partNo: 742841210; Manufacturer: Würth Elektronik eiSos GmbH; Manufacturer 1: WURTH ELEKTRONIK; Description 1: WURTH ELEKTRONIK - 742841210 - FERRITE BEAD, 1.8OHM, 50MA, 0402; Impedance: 1000 Ohm; ComponentLink1Description: Manufacturer; ComponentLink1URL: http://www.we-online.de; Created by: Christin Zierenner; Created Date: May 2009; ComponentLink2Description: Datasheet; ComponentLink2URL: http://www.we-online.de/katalog/media/pdf/742841210.pdf; Supplier 1: Farnell; Supplier Part Number 1: 1748573; Manufacturer Part Number 1: 742841210; RoHS 1: YES; Stock 1: 220; Pricing 1: 1=0.31, 10=0.219, 50=0.19, 100=0.158, 250=0.126 (GBP); ComponentLink3URL: http://www.farnell.com/datasheets/1696154.pdf; ComponentLink3Description: http://www.farnell.com/datasheets/1696154.pdf; ComponentLink4URL: http://www.farnell.com/cad/1670055.zip; ComponentLink4Description: http://www.farnell.com/cad/1670055.zip; Supplier 2: Mouser; Supplier Part Number 2: 710-742841210
footprint SMD 0402 (Chip Inductor, 2-Leads, Body 1,0x0,5mm)
pins: 1, 2

## WE-TPC 2811, T, 744028100
designator L?, comment 10.0 µH  Supplier Part Number 1: 1635822  Manufacturer 1: WURTH ELEKTRONIK  Manufacturer Part Number 1: 744028100  RoHS 1: YES  Description 1: WURTH ELEKTRONIK - 744028100 - CHOKE, SMD 10UH, 0.63A
SMD Shielded Tiny Power Inductor WE-TPC, L=10.0 µH; Manufacturer: Würth Elektronik eiSos GmbH; partNo: 744028100; Inductance: 10.0 µH; ComponentLink1Description: Manufacturer; ComponentLink1URL: http://www.we-online.de; Created by: Christin Zierenner; Created Date: July 2009; ComponentLink2Description: Datasheet; ComponentLink2URL: http://www.we-online.de/katalog/media/pdf/744028100.pdf; Supplier 1: Farnell; Stock 1: 557; Pricing 1: 1=0.9, 10=0.86, 50=0.84, 100=0.81, 250=0.75 (GBP); ComponentLink3URL: http://www.farnell.com/datasheets/69345.pdf; ComponentLink3Description: http://www.farnell.com/datasheets/69345.pdf; ComponentLink4URL: http://www.farnell.com/cad/1670106.zip; ComponentLink4Description: http://www.farnell.com/cad/1670106.zip
footprint WE-TPC 2811, T (SMD Inductor, 2-Leads, Body 2,8x2,8mm)
pins: 1, 2